# EAGLE library part MC10EL04 (library QuantumOptics)
MC10EL04, On Semi, ECL/PECL 2-input NAND/AND, SE in to Diff out, SOIC-8.
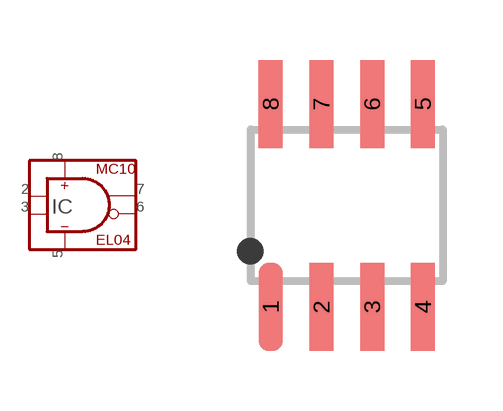
[diagram p33: symbol with the pads of SOIC-8; footprint SOIC-8]

Designator prefix IC

## MC10EL04D  [SOIC-8]
2  IN1  in
3  IN2  in
5  VEE  in
6  ~Q  out
7  Q  out
8  VCC  in

## Footprint SOIC-8 (pad centres in mm)
SOIC-8 (a.k.a. SO-8), pads on 0.050" x 0.200" c-c spacing.
smd 0.6 x 2.2: 1 -1.27,-2.54; 2 0,-2.54; 3 1.27,-2.54; 4 2.54,-2.54; 5 2.54,2.54; 6 1.27,2.54; 7 0,2.54; 8 -1.27,2.54